# EAGLE library part FXOS8700CQR1 (library PP_Sensors)
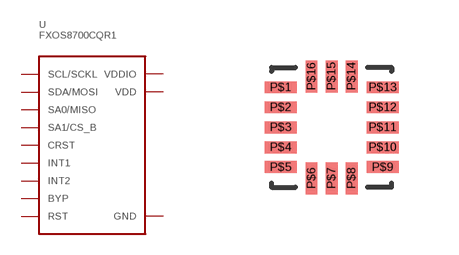
[diagram p4: symbol with the pads of FXOS8700CQR1; footprint FXOS8700CQR1]

Designator prefix U

## FXOS8700CQR1  [FXOS8700CQR1]
P$1  VDDIO
P$2  BYP
P$3  GND
P$4  SCL/SCKL
P$5  GND
P$6  SDA/MOSI
P$7  SA0/MISO
P$8  CRST
P$9  INT2
P$10  SA1/CS_B
P$11  INT1
P$12  GND
P$13  GND
P$14  VDD
P$16  RST

## Footprint FXOS8700CQR1 (pad centres in mm)
smd 0.8 x 0.3: P$1 -1.275,1; P$2 -1.275,0.5; P$3 -1.275,0; P$4 -1.275,-0.5; P$5 -1.275,-1; P$9 1.275,-1; P$10 1.275,-0.5; P$11 1.275,0; P$12 1.275,0.5; P$13 1.275,1
smd 0.3 x 0.8: P$6 -0.5,-1.275; P$7 0,-1.275; P$8 0.5,-1.275; P$14 0.5,1.275; P$15 0,1.275; P$16 -0.5,1.275